# Altium schematic symbol library Microchip.SchLib: 39 symbols (part 1 of 2)
Pins are listed as number, name and electrical type; pins without a type are passive.

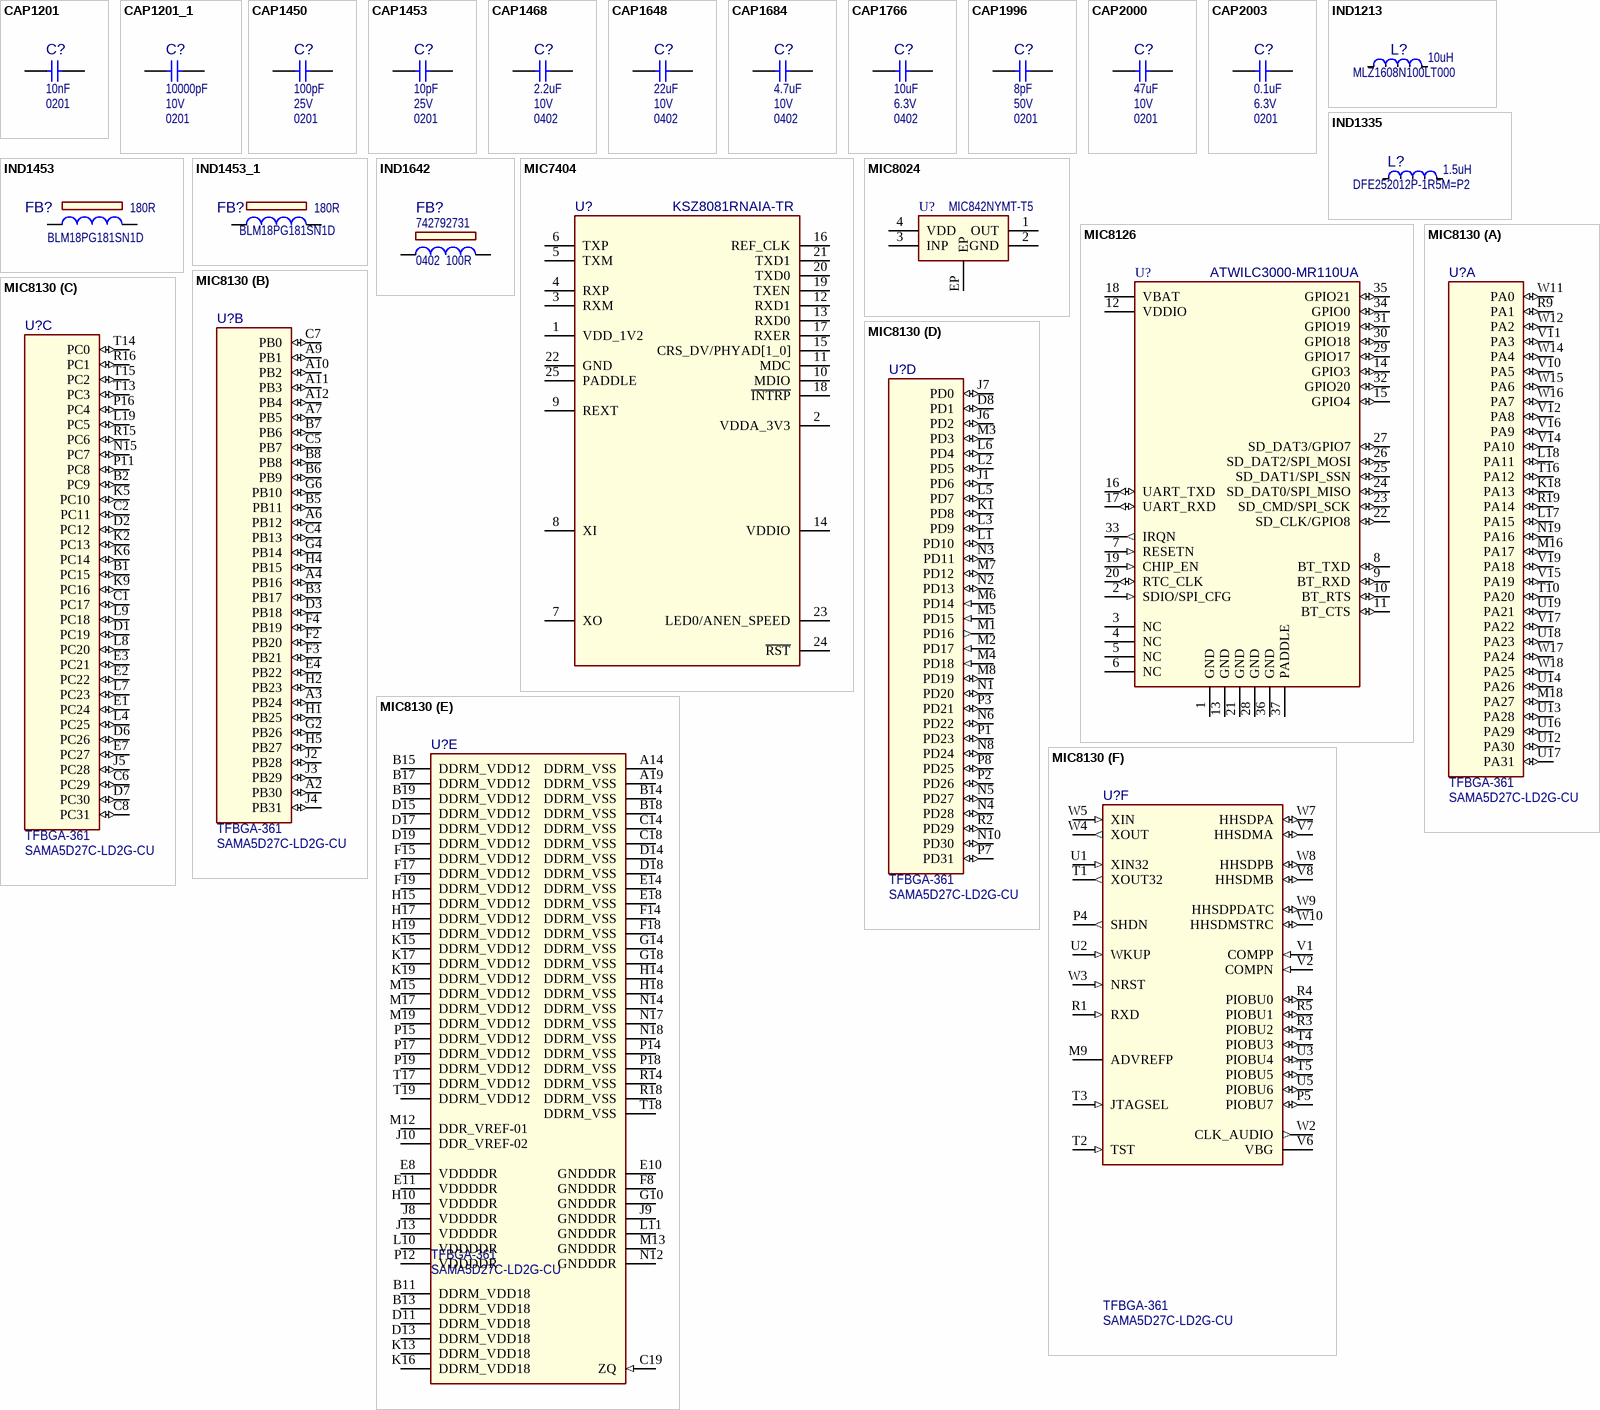
[diagram p0: symbols CAP1201 to MIC8130]

## CAP1201
designator C?, comment value 10nF  Package: 0201  (hidden comment: Capacitor NP)
Capacitor; Manufacturer 1: Murata; Manufacturer Part Number 1: GRM033R61A103KA01D; MCHP-ID: CAP1201; Voltage: 10V; Description_: CAP CER 10000pF 10V 10% X5R SMD 0201; Dev Tools Status: Production; Tolerance: 10%; Temperature Coeffcient: X5R; Type: Ceramic; Owner: Tad Ahlvers; Populated: YES; Revision: 1; Symbol: Capacitor NP; Status: MCL Design; ComponentLink1URL: https://chn-vm-apps.microchip.com/mchprepo/parts/Datasheets/c02e.pdf; ComponentLink1Description: SVN Datasheet; ComponentLink2URL: C:\ALTIUM_WORK\00001_MCHP-CDB\Datasheets\c02e.pdf; ComponentLink2Description: Local Datasheet; ComponentLink3URL: C:\ALTIUM_WORK\00001_MCHP-CDB\Library\LibraryRefs\Capacitor NP.SchLib; ComponentLink3Description: Open Symbol; ComponentLink4URL: C:\ALTIUM_WORK\00001_MCHP-CDB\Library\Footprints\CAP_C_0201.PcbLib; ComponentLink4Description: Open Footprint; ComponentLink5Description: Open Footprint 2; ComponentLink6Description: Open Footprint 3; ComponentLink7Description: Open Footprint 4; Operating Temperature: -55C to +85C; Category: Capacitor; Supplier 1: Digi-Key; Supplier Part Number 1: 490-3166-2-ND; Quantity Override: 1
footprint CAP_C_0201
pins: 1, 2

## CAP1201_1
designator C?, comment value 10000pF  Voltage: 10V  Package: 0201  (hidden comment: Capacitor NP)
Capacitor; Manufacturer 1: Murata; Manufacturer Part Number 1: GRM033R61A103KA01D; MCHP-ID: CAP1201; Description_: CAP CER 10000pF 10V 10% X5R SMD 0201; Dev Tools Status: Production; Tolerance: 10%; Temperature Coeffcient: X5R; Type: Ceramic; Owner: Tad Ahlvers; Populated: YES; Revision: 1; Symbol: Capacitor NP; Status: MCL Design; ComponentLink1URL: https://chn-vm-apps.microchip.com/mchprepo/parts/Datasheets/c02e.pdf; ComponentLink1Description: SVN Datasheet; ComponentLink2URL: C:\ALTIUM_WORK\00001_MCHP-CDB\Datasheets\c02e.pdf; ComponentLink2Description: Local Datasheet; ComponentLink3URL: C:\ALTIUM_WORK\00001_MCHP-CDB\Library\LibraryRefs\Capacitor NP.SchLib; ComponentLink3Description: Open Symbol; ComponentLink4URL: C:\ALTIUM_WORK\00001_MCHP-CDB\Library\Footprints\CAP_C_0201.PcbLib; ComponentLink4Description: Open Footprint; ComponentLink5Description: Open Footprint 2; ComponentLink6Description: Open Footprint 3; ComponentLink7Description: Open Footprint 4; Operating Temperature: -55C to +85C; Category: Capacitor; Supplier 1: Digi-Key; Supplier Part Number 1: 490-3166-2-ND; Quantity Override: 1
footprint CAP_C_0201
pins: 1, 2

## CAP1450
designator C?, comment value 100pF  Voltage: 25V  Package: 0201  (hidden comment: Capacitor NP)
Capacitor; Manufacturer 1: Murata Electronics North America; Manufacturer Part Number 1: GRM0335C1E101JA01D; MCHP-ID: CAP1450; Description_: CAP CER 100pF 25V 5% NP0 SMD 0201; Dev Tools Status: Design; Tolerance: 5%; Temperature Coeffcient: NP0; Type: Ceramic; Owner: Gabor Bihari; Populated: YES; Revision: B; Symbol: Capacitor NP; Status: MCL Design; ComponentLink1URL: https://chn-vm-apps.microchip.com/mchprepo/parts/Datasheets/c02e.pdf; ComponentLink1Description: SVN Datasheet; ComponentLink2URL: C:\ALTIUM_WORK\00001_MCHP-CDB\Datasheets\c02e.pdf; ComponentLink2Description: Local Datasheet; ComponentLink3URL: C:\ALTIUM_WORK\00001_MCHP-CDB\Library\LibraryRefs\Capacitor NP.SchLib; ComponentLink3Description: Open Symbol; ComponentLink4URL: C:\ALTIUM_WORK\00001_MCHP-CDB\Library\Footprints\CAP_C_0201.PcbLib; ComponentLink4Description: Open Footprint; ComponentLink5Description: Open Footprint 2; ComponentLink6Description: Open Footprint 3; ComponentLink7Description: Open Footprint 4; Operating Temperature: -55C to 125C; Category: Capacitor; Manufacturer 2: Murata Electronics North America; Manufacturer Part Number 2: GRM0335C1E101JA01D; Supplier 1: Digi-Key; Supplier Part Number 1: 490-3160-1-ND; Supplier 2: Digi-Key; Supplier Part Number 2: 490-3160-2-ND; Quantity Override: 1
footprint CAP_C_0201
pins: 1, 2

## CAP1453
designator C?, comment value 10pF  Voltage: 25V  Package: 0201  (hidden comment: Capacitor NP)
Capacitor; Manufacturer 1: TDK Corporation; Manufacturer Part Number 1: C0603C0G1E100D030BA; MCHP-ID: CAP1453; Description_: CAP CER 10pF 25V 0.5pF C0G SMD 0201; Dev Tools Status: Design; Tolerance: 0.5pF; Temperature Coeffcient: C0G; Type: Ceramic; Owner: Gabor Bihari; Populated: DNP; Revision: A; Symbol: Capacitor NP; Status: MCL Design; ComponentLink1URL: https://chn-vm-apps.microchip.com/mchprepo/parts/Datasheets/mlcc_commercial_general_en.pdf; ComponentLink1Description: SVN Datasheet; ComponentLink2URL: C:\ALTIUM_WORK\00001_MCHP-CDB\Datasheets\mlcc_commercial_general_en.pdf; ComponentLink2Description: Local Datasheet; ComponentLink3URL: C:\ALTIUM_WORK\00001_MCHP-CDB\Library\LibraryRefs\Capacitor NP.SchLib; ComponentLink3Description: Open Symbol; ComponentLink4URL: C:\ALTIUM_WORK\00001_MCHP-CDB\Library\Footprints\CAP_C_0201.PcbLib; ComponentLink4Description: Open Footprint; ComponentLink5Description: Open Footprint 2; ComponentLink6Description: Open Footprint 3; ComponentLink7Description: Open Footprint 4; Operating Temperature: -55C to +125C; Category: Capacitor; Supplier 1: Digi-Key; Supplier Part Number 1: 445-4651-2-ND; Quantity Override: 1
footprint CAP_C_0201
pins: 1, 2

## CAP1468
designator C?, comment value 2.2uF  Voltage: 10V  Package: 0402  (hidden comment: Capacitor NP)
Capacitor; Manufacturer 1: TDK Corporation; Manufacturer Part Number 1: C1005X7S1A225K050BC; MCHP-ID: CAP1468; Description_: CAP CER 2.2uF 10V 10% X7S SMD 0402; Dev Tools Status: Production; Tolerance: 10%; Temperature Coeffcient: X7S; Type: Ceramic; Owner: Sorin Stanoaia; Populated: YES; Revision: 1; Symbol: Capacitor NP; Status: MCL Design; ComponentLink1URL: https://chn-vm-apps.microchip.com/mchprepo/parts/Datasheets/c02e.pdf; ComponentLink1Description: SVN Datasheet; ComponentLink2URL: C:\ALTIUM_WORK\00001_MCHP-CDB\Datasheets\c02e.pdf; ComponentLink2Description: Local Datasheet; ComponentLink3URL: C:\ALTIUM_WORK\00001_MCHP-CDB\Library\LibraryRefs\Capacitor NP.SchLib; ComponentLink3Description: Open Symbol; ComponentLink4URL: C:\ALTIUM_WORK\00001_MCHP-CDB\Library\Footprints\CAP_C_0402.PcbLib; ComponentLink4Description: Open Footprint; ComponentLink5Description: Open Footprint 2; ComponentLink6Description: Open Footprint 3; ComponentLink7Description: Open Footprint 4; Operating Temperature: -55C to +125C; Category: Capacitor; Manufacturer 2: Murata Electronics North America; Manufacturer Part Number 2: GRM155C71A225KE11J; Supplier 1: Digi-Key; Supplier Part Number 1: 445-9097-1-ND; Supplier 2: Digi-Key; Supplier Part Number 2: GRM155C71A225KE11J-ND; Quantity Override: 1
footprint CAP_C_0402
pins: 1, 2

## CAP1648
designator C?, comment value 22uF  Voltage: 10V  Package: 0402  (hidden comment: Capacitor NP)
GRM158R61A226ME15J Multilayer Ceramic Capacitors MLCC - SMD/SMT 22 uF 10 VDC 20% 0402 X5R; Manufacturer 1: TDK Corporation; Manufacturer Part Number 1: C1608X5R1A226M080AC; MCHP-ID: CAP1648; Description_: CAP CER 22uF 10V 20% X5R SMD 0603; Dev Tools Status: Production; Owner: Razvan Cristescu; Populated: YES; Revision: 1; Symbol: Capacitor NP; Status: MCL Design; Tolerance: 20%; Temperature Coeffcient: X5R; ComponentLink1URL: https://chn-vm-apps.microchip.com/mchprepo/parts/Datasheets/1913358.pdf; ComponentLink1Description: SVN Datasheet; ComponentLink2URL: C:\ALTIUM_WORK\00001_MCHP-CDB\Datasheets\1913358.pdf; ComponentLink2Description: Local Datasheet; ComponentLink3URL: C:\ALTIUM_WORK\00001_MCHP-CDB\Library\LibraryRefs\Capacitor NP.SchLib; ComponentLink3Description: Open Symbol; ComponentLink4URL: C:\ALTIUM_WORK\00001_MCHP-CDB\Library\Footprints\CAP_C_0603.PcbLib; ComponentLink4Description: Open Footprint; ComponentLink5Description: Open Footprint 2; ComponentLink6Description: Open Footprint 3; ComponentLink7Description: Open Footprint 4; Operating Temperature: -55C to +85C; Type: Ceramic; Category: Capacitor; Supplier 1: Farnell; Supplier Part Number 1: 2525091; Quantity Override: 1; Manufacturer 2: Murata Electronics North America; Manufacturer Part Number 2: GRM188R61A226ME15D; Supplier 2: Digi-Key; Supplier Part Number 2: 490-10476-1-ND
footprint CAP_C_0402 (Chip Capacitor, 2-Leads, Body 1.0x0.5mm, IPC High Density)
pins: 1, 2

## CAP1684
designator C?, comment value 4.7uF  Voltage: 10V  Package: 0402  (hidden comment: Capacitor NP)
Capacitor; Manufacturer 1: TDK Corporation; Manufacturer Part Number 1: C1005X5R1A475K050BC; MCHP-ID: CAP1684; Description_: CAP CER 4.7uF 10V 10% X5R SMD 0402; Dev Tools Status: Production; Tolerance: 10%; Temperature Coeffcient: X5R; Type: Ceramic; Owner: Jesus Aviles; Populated: YES; Revision: 1; Symbol: Capacitor NP; Status: MCL Design; ComponentLink1Description: SVN Datasheet; ComponentLink2Description: Local Datasheet; ComponentLink3URL: C:\ALTIUM_WORK\00001_MCHP-CDB\Library\LibraryRefs\Capacitor NP.SchLib; ComponentLink3Description: Open Symbol; ComponentLink4URL: C:\ALTIUM_WORK\00001_MCHP-CDB\Library\Footprints\CAP_C_0402.PcbLib; ComponentLink4Description: Open Footprint; ComponentLink5Description: Open Footprint 2; ComponentLink6Description: Open Footprint 3; ComponentLink7Description: Open Footprint 4; Operating Temperature: -55C to 85C; Category: Capacitor; Supplier 1: Digi-Key; Supplier Part Number 1: 445-13820-1-ND; Quantity Override: 1
footprint CAP_C_0402
pins: 1, 2

## CAP1766
designator C?, comment value 10uF  Voltage: 6.3V  Package: 0402  (hidden comment: Capacitor NP)
Capacitor; Manufacturer 1: Yageo; Manufacturer Part Number 1: CC0402MRX5R5BB106; MCHP-ID: CAP1766; Description_: CAP CER 10uF 6.3V 20% X5R SMD 0402; Dev Tools Status: Design; Tolerance: 20%; Temperature Coeffcient: X5R; Type: Ceramic; Owner: Sam Charles; Populated: YES; Revision: B; Symbol: Capacitor NP; Status: MCL Design; ComponentLink1URL: https://chn-vm-apps.microchip.com/mchprepo/parts/Datasheets/UPY-GPHC_X5R_4V-to-50V_25.pdf; ComponentLink1Description: SVN Datasheet; ComponentLink2URL: C:\ALTIUM_WORK\00001_MCHP-CDB\Datasheets\UPY-GPHC_X5R_4V-to-50V_25.pdf; ComponentLink2Description: Local Datasheet; ComponentLink3URL: C:\ALTIUM_WORK\00001_MCHP-CDB\Library\LibraryRefs\Capacitor NP.SchLib; ComponentLink3Description: Open Symbol; ComponentLink4URL: C:\ALTIUM_WORK\00001_MCHP-CDB\Library\Footprints\CAP_C_0402.PcbLib; ComponentLink4Description: Open Footprint; ComponentLink5Description: Open Footprint 2; ComponentLink6Description: Open Footprint 3; ComponentLink7Description: Open Footprint 4; Operating Temperature: -55°C ~ 85°C; Category: Capacitor; Supplier 1: Digi-Key; Supplier Part Number 1: 311-1729-1-ND; Quantity Override: 1
footprint CAP_C_0402
pins: 1, 2

## CAP1996
designator C?, comment value 8pF  Voltage: 50V  Package: 0201  (hidden comment: Capacitor NP)
Capacitor; Manufacturer 1: TDK Corporation; Manufacturer Part Number 1: CGA1A2C0G1H080D030BA; MCHP-ID: CAP1996; Description_: CAP CER 8pF 50V +/- 0.1pF C0G 0201; Dev Tools Status: Design; Tolerance: 0.1pF; Temperature Coeffcient: C0G; Type: Ceramic; Owner: Dragos Danaila; Populated: YES; Revision: B; Symbol: Capacitor NP; Status: MCL Design; ComponentLink1URL: https://chn-vm-apps.microchip.com/mchprepo/parts/Datasheets/GRM0335C1H8R0BA01-01.pdf; ComponentLink1Description: SVN Datasheet; ComponentLink2URL: C:\ALTIUM_WORK\00001_MCHP-CDB\Datasheets\GRM0335C1H8R0BA01-01.pdf; ComponentLink2Description: Local Datasheet; ComponentLink3URL: C:\ALTIUM_WORK\00001_MCHP-CDB\Library\LibraryRefs\Capacitor NP.SchLib; ComponentLink3Description: Open Symbol; ComponentLink4URL: C:\ALTIUM_WORK\00001_MCHP-CDB\Library\Footprints\CAP_C_0201.PcbLib; ComponentLink4Description: Open Footprint; ComponentLink5Description: Open Footprint 2; ComponentLink6Description: Open Footprint 3; ComponentLink7Description: Open Footprint 4; Operating Temperature: -55C to +125C; Category: Capacitor; Supplier 1: Digi-Key; Supplier Part Number 1: 445-12057-1-ND; Quantity Override: 1; Manufacturer 2: Murata Electronics; Manufacturer Part Number 2: GRM0335C1H8R0BA01D; Supplier 2: Mouser; Supplier Part Number 2: 81-GRM0335C1H8R0BA1D
footprint CAP_C_0201
pins: 1, 2

## CAP2000
designator C?, comment value 47uF  Voltage: 10V  Package: 0201  (hidden comment: Capacitor NP)
Capacitor; Manufacturer 1: Murata Electronics North America; Manufacturer Part Number 1: GRM21BR61A476ME15L; MCHP-ID: CAP2000; Description_: CAP CER 47uF 10V 20% X5R 0805; Dev Tools Status: Design; Tolerance: 20%; Temperature Coeffcient: X5R; ESR: 0.3R; Type: Ceramic; Owner: Dragos Danaila; Populated: YES; Revision: A; Symbol: Capacitor NP; Status: MCL Design; ComponentLink1URL: https://chn-vm-apps.microchip.com/mchprepo/parts/Datasheets/GRM21BR61A476ME15-01.pdf; ComponentLink1Description: SVN Datasheet; ComponentLink2URL: C:\ALTIUM_WORK\00001_MCHP-CDB\Datasheets\GRM21BR61A476ME15-01.pdf; ComponentLink2Description: Local Datasheet; ComponentLink3URL: C:\ALTIUM_WORK\00001_MCHP-CDB\Library\LibraryRefs\Capacitor NP.SchLib; ComponentLink3Description: Open Symbol; ComponentLink4URL: C:\ALTIUM_WORK\00001_MCHP-CDB\Library\Footprints\RES_C_0805.PcbLib; ComponentLink4Description: Open Footprint; ComponentLink5Description: Open Footprint 2; ComponentLink6Description: Open Footprint 3; ComponentLink7Description: Open Footprint 4; Operating Temperature: -55C to +85C; Category: Capacitor; Supplier 1: Digi-Key; Supplier Part Number 1: 490-9961-1-ND; Quantity Override: 1; Manufacturer 2: Taiyo Yuden; Manufacturer 3: Murata; Manufacturer 4: TDK; Manufacturer Part Number 2: LMK212BBJ476MG-T; Manufacturer Part Number 3: GRM21BR61A476ME15K; Manufacturer Part Number 4: C2012X5R1A476M125AC; Supplier 2: Mouser; Supplier 3: Mouser; Supplier 4: Mouser; Supplier Part Number 2: 963-LMK212BBJ476MG-T; Supplier Part Number 3: 81-GRM21BR61A476ME5K; Supplier Part Number 4: 810-C2012X5R1A476M
footprint CAPC6333_33N_KEM
pins: 1, 2

## CAP2003
designator C?, comment value 0.1uF  Voltage: 6.3V  Package: 0201  (hidden comment: Capacitor NP)
Capacitor; Manufacturer 1: KEMET; Manufacturer Part Number 1: C0201C104K9PACTU; MCHP-ID: CAP2003; Description_: CAP CER 0.1uF 6.3V 10% X5R 0201; Dev Tools Status: Design; Tolerance: 10%; Temperature Coeffcient: X5R; Owner: Dragos Danaila; Populated: YES; ESR: 0.005R; Type: Ceramic; Revision: A; Symbol: Capacitor NP; Status: MCL Design; ComponentLink1URL: https://chn-vm-apps.microchip.com/mchprepo/parts/Datasheets/KEM_C1006_X5R_SMD.pdf; ComponentLink1Description: SVN Datasheet; ComponentLink2URL: C:\ALTIUM_WORK\00001_MCHP-CDB\Datasheets\KEM_C1006_X5R_SMD.pdf; ComponentLink2Description: Local Datasheet; ComponentLink3URL: C:\ALTIUM_WORK\00001_MCHP-CDB\Library\LibraryRefs\Capacitor NP.SchLib; ComponentLink3Description: Open Symbol; ComponentLink4URL: C:\ALTIUM_WORK\00001_MCHP-CDB\Library\Footprints\RES_C_0201.PcbLib; ComponentLink4Description: Open Footprint; ComponentLink5Description: Open Footprint 2; ComponentLink6Description: Open Footprint 3; ComponentLink7Description: Open Footprint 4; Operating Temperature: -55C to +85C; Category: Capacitor; Supplier 1: Digi-Key; Supplier Part Number 1: 399-7743-1-ND; Quantity Override: 1; Manufacturer 2: Murata Electronics North America; Manufacturer Part Number 2: GRM033R60J104KE19D; Manufacturer 3: Yageo; Manufacturer Part Number 3: CC0201KRX5R5BB104; Supplier 2: Digi-Key; Supplier Part Number 2: 490-3167-1-ND; Supplier 3: Digi-Key; Supplier Part Number 3: 311-1408-1-ND
footprint CAP_C_0201
pins: 1, 2

## IND1213
designator L?, comment value 10uH  Manufacturer Part Number 1: MLZ1608N100LT000  (hidden comment: Inductor)
Manufacturer 1: TDK Corporation; MCHP-ID: IND1213; Description_: INDUCTOR 10uH 600mA 20% SMD 0603; Dev Tools Status: Design; Owner: Jamus Griego; Populated: YES; DCR: 0.6R; RMS Current: 300mA; Saturation Current: 60mA; Test Frequency: 2MHz; Revision: A; Symbol: Inductor; Status: MCL Design; ComponentLink1Description: SVN Datasheet; ComponentLink2Description: Local Datasheet; ComponentLink3URL: C:\ALTIUM_WORK\00001_MCHP-CDB\Library\LibraryRefs\Inductor.SchLib; ComponentLink3Description: Open Symbol; ComponentLink4URL: C:\ALTIUM_WORK\00001_MCHP-CDB\Library\Footprints\IND_C_0603.PcbLib; ComponentLink4Description: Open Footprint; ComponentLink5Description: Open Footprint 2; ComponentLink6Description: Open Footprint 3; ComponentLink7Description: Open Footprint 4; Type: Inductor; Category: Inductor; Supplier 1: Digi-Key; Supplier Part Number 1: 445-6755-1-ND; Quantity Override: 1; ComponentLink1URL: https://chn-vm-apps.microchip.com/mchprepo/parts/Datasheets/inductor_commercial_decoupling_mlz1608_en.pdf; ComponentLink2URL: C:\ALTIUM_WORK\00001_MCHP-CDB\Datasheets\inductor_commercial_decoupling_mlz1608_en.pdf; Operating Temperature: -55C to +125C; Package: 0603
footprint IND_0603
pins: 1 S, 2 F
2 alternate drawings of the same symbol

## IND1335
designator L?, comment value 1.5uH  Manufacturer Part Number 1: DFE252012P-1R5M=P2  (hidden comment: Inductor)
Manufacturer 1: Murata Electronics North America; MCHP-ID: IND1335; Description_: INDUCTOR 1.5uH 3.5A 20% SMD 1008; Dev Tools Status: Design; Owner: Razvan Cristescu; DCR: 0.06R; RMS Current: 3.5A; Test Frequency: 1MHz; Populated: YES; Revision: A; Symbol: Inductor; Status: MCL Design; ComponentLink1URL: https://chn-vm-apps.microchip.com/mchprepo/parts/Datasheets/m_dfe252012p.pdf; ComponentLink1Description: SVN Datasheet; ComponentLink2URL: C:\ALTIUM_WORK\00001_MCHP-CDB\Datasheets\m_dfe252012p.pdf; ComponentLink2Description: Local Datasheet; ComponentLink3URL: C:\ALTIUM_WORK\00001_MCHP-CDB\Library\LibraryRefs\Inductor.SchLib; ComponentLink3Description: Open Symbol; ComponentLink4URL: C:\ALTIUM_WORK\00001_MCHP-CDB\Library\Footprints\IND_C_1008.PcbLib; ComponentLink4Description: Open Footprint; ComponentLink5Description: Open Footprint 2; ComponentLink6Description: Open Footprint 3; ComponentLink7Description: Open Footprint 4; Package: 1008; Type: Inductor; Category: Inductor; Supplier 1: Digi-Key; Supplier Part Number 1: 490-10648-6-ND; Quantity Override: 1
footprint IND_1008
pins: 1 S, 2 F
2 alternate drawings of the same symbol

## IND1453
designator FB?, comment value 180R  Manufacturer Part Number 1: BLM18PG181SN1D  (hidden comment: Ferrite Bead)
FERRITE 180R 1.5A SMD 0603; Manufacturer 1: Murata Electronics North America; MCHP-ID: IND1453; Dev Tools Status: Production; Owner: Dragos Danaila; DCR: 0.09R; Test Frequency: 100MHz; Populated: YES; Revision: 1; Symbol: Ferrite Bead; Description_: FERRITE 180R 1.5A SMD 0603; Status: MCL Design; ComponentLink1URL: https://chn-vm-apps.microchip.com/mchprepo/parts/Datasheets/ENFA0003.pdf; ComponentLink1Description: SVN Datasheet; ComponentLink2URL: C:\ALTIUM_WORK\00001_MCHP-CDB\Datasheets\ENFA0003.pdf; ComponentLink2Description: Local Datasheet; ComponentLink3URL: C:\ALTIUM_WORK\00001_MCHP-CDB\Library\LibraryRefs\Ferrite Bead.SchLib; ComponentLink3Description: Open Symbol; ComponentLink4URL: C:\ALTIUM_WORK\00001_MCHP-CDB\Library\Footprints\IND_C_0603.PcbLib; ComponentLink4Description: Open Footprint; ComponentLink5Description: Open Footprint 2; ComponentLink6Description: Open Footprint 3; ComponentLink7Description: Open Footprint 4; Operating Temperature: -55C to +125C; Package: 0603; Type: Ferrite Bead; Category: Inductor; Saturation Current: 1.5A; Supplier 1: Digi-Key; Supplier Part Number 1: 490-5263-1-ND; Quantity Override: 1
footprint IND_0603
pins: 1, 2
2 alternate drawings of the same symbol

## IND1453_1
designator FB?, comment value 180R  Manufacturer Part Number 1: BLM18PG181SN1D  (hidden comment: Ferrite Bead)
Manufacturer 1: Murata Electronics North America; MCHP-ID: IND1453; Description_: FERRITE 180R 1.5A SMD 0603; Dev Tools Status: Design; Owner: Dragos Danaila; DCR: 0.09R; Saturation Current: 1.5A; Test Frequency: 100MHz; Populated: YES; Revision: A; Symbol: Ferrite Bead; Status: MCL Design; ComponentLink1URL: https://chn-vm-apps.microchip.com/mchprepo/parts/Datasheets/ENFA0003.pdf; ComponentLink1Description: SVN Datasheet; ComponentLink2URL: C:\ALTIUM_WORK\00001_MCHP-CDB\Datasheets\ENFA0003.pdf; ComponentLink2Description: Local Datasheet; ComponentLink3URL: C:\ALTIUM_WORK\00001_MCHP-CDB\Library\LibraryRefs\Ferrite Bead.SchLib; ComponentLink3Description: Open Symbol; ComponentLink4URL: C:\ALTIUM_WORK\00001_MCHP-CDB\Library\Footprints\IND_C_0603.PcbLib; ComponentLink4Description: Open Footprint; ComponentLink5Description: Open Footprint 2; ComponentLink6Description: Open Footprint 3; ComponentLink7Description: Open Footprint 4; Operating Temperature: -55C to +125C; Package: 0603; Type: Ferrite Bead; Category: Inductor; Supplier 1: Digi-Key; Supplier Part Number 1: 490-5263-1-ND; Quantity Override: 1
footprint IND_0603
pins: 1, 2
2 alternate drawings of the same symbol

## IND1642
designator FB?, comment value 100R  Package: 0402  Manufacturer Part Number 1: 742792731  (hidden comment: Ferrite Bead)
Manufacturer 1: Wurth Electronics; MCHP-ID: IND1642; Description_: FERRITE 100R@100MHz 1.2A SMD 0402; Dev Tools Status: Design; Owner: Dragos Danaila; DCR: 0.09R; RMS Current: 1.2A; Test Frequency: 100MHz; Populated: YES; Revision: A; Symbol: Ferrite Bead; Status: MCL Design; ComponentLink1URL: https://chn-vm-apps.microchip.com/mchprepo/parts/Datasheets/742792731.pdf; ComponentLink1Description: SVN Datasheet; ComponentLink2URL: C:\ALTIUM_WORK\00001_MCHP-CDB\Datasheets\742792731.pdf; ComponentLink2Description: Local Datasheet; ComponentLink3URL: C:\ALTIUM_WORK\00001_MCHP-CDB\Library\LibraryRefs\Ferrite Bead.SchLib; ComponentLink3Description: Open Symbol; ComponentLink4URL: C:\ALTIUM_WORK\00001_MCHP-CDB\Library\Footprints\IND_C_0402.PcbLib; ComponentLink4Description: Open Footprint; ComponentLink5Description: Open Footprint 2; ComponentLink6Description: Open Footprint 3; ComponentLink7Description: Open Footprint 4; Operating Temperature: -55C to +125C; Type: Ferrite Bead; Category: Inductor; Supplier 1: Digi-Key; Supplier Part Number 1: 732-2362-1-ND; Quantity Override: 1
footprint IND_0402
pins: 1, 2
2 alternate drawings of the same symbol

## MIC7404
designator U?, comment value KSZ8081RNAIA-TR  (hidden comment: ETHERNET QFN-24)
Manufacturer 1: Microchip Technology; MCHP-ID: MIC7404; Description_: MCHP INTERFACE ETHERNET KSZ8081RNAIA-TR QFN-24; Symbol: KSZ8081RNAIA QFN-24; Dev Tools Status: Design; Owner: Ciprian Abramov; Populated: YES; Type: Ethernet; Status: MCL Design; Revision: A; Category: MCHP-Interface; ComponentLink1Description: SVN Datasheet; ComponentLink2Description: Local Datasheet; ComponentLink3URL: C:\ALTIUM_WORK\00001_MCHP-CDB\Library\LibraryRefs\KSZ8081RNAIA QFN-24.SchLib; ComponentLink3Description: Open Symbol; ComponentLink4URL: C:\ALTIUM_WORK\00001_MCHP-CDB\Library\Footprints\QFN-24_4X4.PcbLib; ComponentLink4Description: Open Footprint; ComponentLink5Description: Open Footprint 2; ComponentLink6Description: Open Footprint 3; ComponentLink7Description: Open Footprint 4; Manufacturer Part Number 1: KSZ8081RNAIA-TR; Supplier 1: Digi-Key; Supplier Part Number 1: 576-4174-1-ND; Quantity Override: 1
footprint QFN-24_MCH
pins: 1 VDD_1V2, 2 VDDA_3V3, 3 RXM, 4 RXP, 5 TXM, 6 TXP, 7 XO, 8 XI, 9 REXT, 10 MDIO, 11 MDC, 12 RXD1, 13 RXD0, 14 VDDIO, 15 CRS_DV/PHYAD[1_0], 16 REF_CLK, 17 RXER, 18 ~{INTRP}, 19 TXEN, 20 TXD0, 21 TXD1, 22 GND, 23 LED0/ANEN_SPEED, 24 ~{RST}, 25 PADDLE

## MIC8024
designator U?, comment Manufacturer Part Number 1: MIC842NYMT-T5  (hidden comment: MIC842 TDFN-4)
Manufacturer 1: Microchip Technology; MCHP-ID: MIC8024; Description_: MCHP ANALOG COMPARATOR 1-CH MIC842NYMT-T5 4-TDFN; MAPS Description: 1.5uA Undervoltage Comparator w/ 1.25% 1.24V Reference, 20mV Hysteresis, Active-; Dev Tools Status: Design; Owner: Dragos Danaila; MPC: 27809THGAE06; LeadContent: Pb-FREE; PackingMedia: T/R; Stage: REL; LeadCount: 4; PackageWidth: 1.2x1.6x0.6mm; ForceMinOrderQtyMult: True; MinOrderQty: 500; TempRange: -40C to +85C; tblDeviceFamilyID: 10172; VDDmax: 0; Channels: 1; TypicalPropDelay: 12000; RailIn: False; Populated: YES; Value: MIC842 TDFN-4; Symbol: MIC842 TDFN-4; Type: Comparator; Status: MCL Design; Revision: B; Category: MCHP-Analog; ComponentLink1URL: http://www.microchip.com/wwwproducts/MIC842; ComponentLink1Description: SVN Datasheet; ComponentLink2URL: C:\ALTIUM_WORK\00001_MCHP-CDB\Datasheets\20005758A.pdf; ComponentLink2Description: Local Datasheet; ComponentLink3URL: C:\ALTIUM_WORK\00001_MCHP-CDB\Library\LibraryRefs\MIC842 TDFN-4.SchLib; ComponentLink3Description: Open Symbol; ComponentLink4URL: C:\ALTIUM_WORK\00001_MCHP-CDB\Library\Footprints\TDFN-4_1.6x1.2.PcbLib; ComponentLink4Description: Open Footprint; ComponentLink5Description: Open Footprint 2; ComponentLink6Description: Open Footprint 3; ComponentLink7Description: Open Footprint 4; Supplier 1: Digi-Key; Supplier Part Number 1: 576-4506-1-ND; IntroductionDate: 2014-01-09; PackageType: UDFN; VDDmin: 0; IqMax: 0; VosMax: 0; Quantity Override: 1
footprint TDFN4_1P2X1P6_MCH
pins: 1 OUT, 2 GND, 3 INP, 4 VDD, EP

## MIC8126
designator U?, comment value ATWILC3000-MR110UA  (hidden comment: MODULE ATWILC3000-MR110CA)
Manufacturer 1: Microchip Technology; MCHP-ID: MIC8126; Description_: MCHP RF WI-FI 802.11b/g/n ATWILC3000-MR110UA; MAPS Description: SmartConnect WILC3000-MR110UA Module; Dev Tools Status: Design; Owner: Ilie Galan; tblDeviceFamilyID: 11256; FrequencyRange: 2.412-2.472 MHz; MaxSpeedMHz: 0; PowerRX: 84mA (802.11n MCS7); PowerTX: 253mA (802.11n MCS7); Sleep: 1.25uA; Populated: YES; Symbol: MODULE ATWILC3000-MR110CA; Type: Wi-Fi; Status: MCL Design; Revision: A; Category: MCHP-Wireless; ComponentLink1URL: http://www.microchip.com/wwwproducts/ATWILC3000; ComponentLink1Description: SVN Datasheet; ComponentLink2URL: C:\ALTIUM_WORK\00001_MCHP-CDB\Datasheets\70005327A.pdf; ComponentLink2Description: Local Datasheet; ComponentLink3URL: C:\ALTIUM_WORK\00001_MCHP-CDB\Library\LibraryRefs\MODULE ATWILC3000-MR110CA.SchLib; ComponentLink3Description: Open Symbol; ComponentLink4URL: C:\ALTIUM_WORK\00001_MCHP-CDB\Library\Footprints\MODULE ATWILC3000-MR110CA.PcbLib; ComponentLink4Description: Open Footprint; ComponentLink5Description: Open Footprint 2; ComponentLink6Description: Open Footprint 3; ComponentLink7Description: Open Footprint 4; Manufacturer Part Number 1: ATWILC3000-MR110UA; Supplier 1: Digi-Key; Supplier Part Number 1: ATWILC3000-MR110UA-ND; Supplier 2: Microchip; Supplier Part Number 2: Microchip Technology ATWILC3000-MR110UA; RfDataRate: 0; RfPower: 0; VDDmax: 0; VDDmin: 0; Quantity Override: 1
footprint MODULE ATWILC3000-MR110CA
pins: 1 GND (power), 2 SDIO/SPI_CFG (in), 3 NC, 4 NC, 5 NC, 6 NC, 7 RESETN (in), 8 BT_TXD (io), 9 BT_RXD (io), 10 BT_RTS (io), 11 BT_CTS (io), 12 VDDIO (power), 13 GND (power), 14 GPIO3 (io), 15 GPIO4 (io), 16 UART_TXD (io), 17 UART_RXD (io), 18 VBAT (power), 19 CHIP_EN (in), 20 RTC_CLK (io), 21 GND (power), 22 SD_CLK/GPIO8 (io), 23 SD_CMD/SPI_SCK (io), 24 SD_DAT0/SPI_MISO (io), 25 SD_DAT1/SPI_SSN (io), 26 SD_DAT2/SPI_MOSI (io), 27 SD_DAT3/GPIO7 (io), 28 GND (power), 29 GPIO17 (io), 30 GPIO18 (io), 31 GPIO19 (io), 32 GPIO20 (io), 33 IRQN (out), 34 GPIO0 (io), 35 GPIO21 (io), 36 GND (power), 37 PADDLE (power)

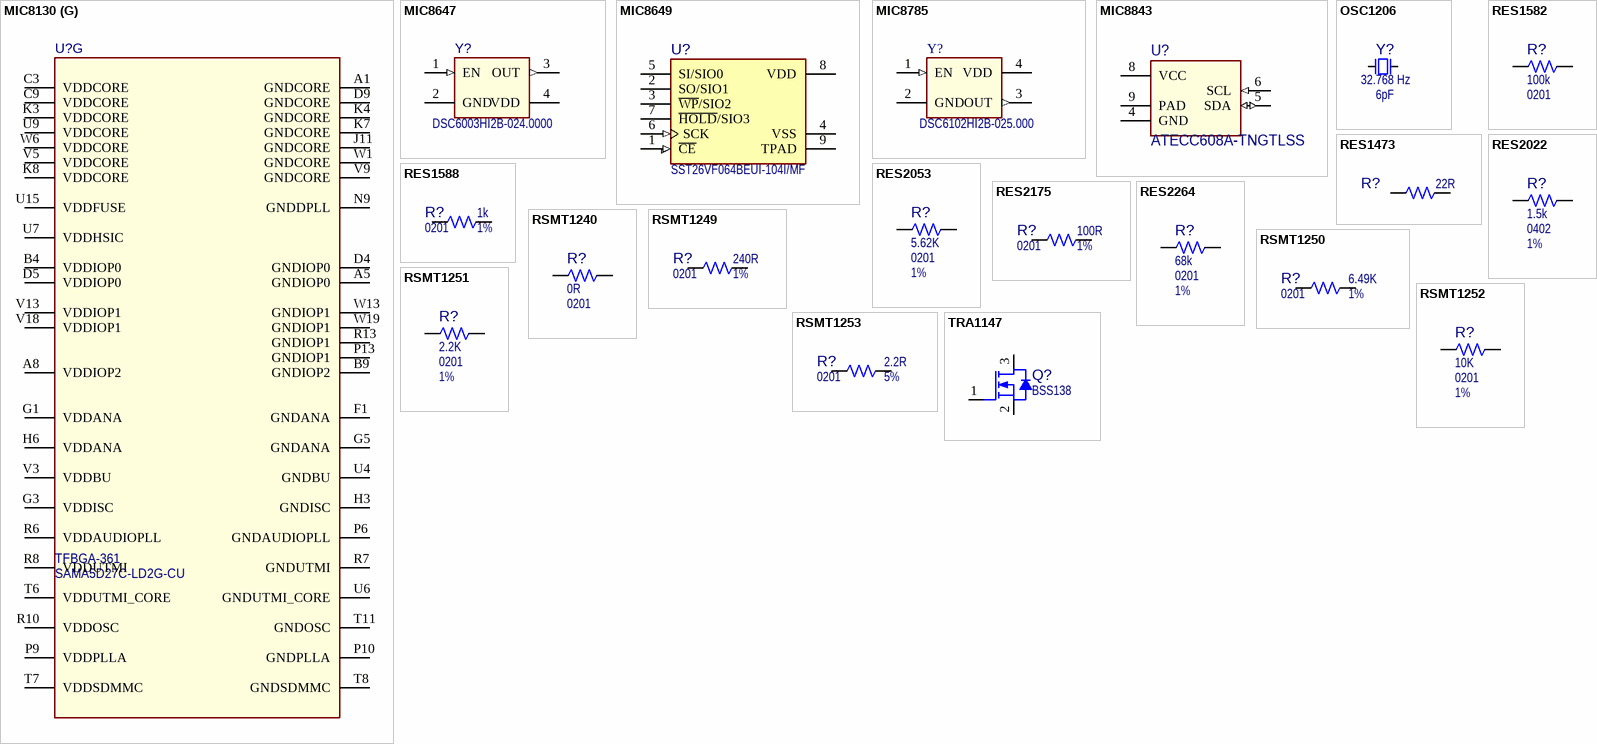
[diagram p1: symbols MIC8130 to TRA1147]

## MIC8130
designator U?, comment SAMA5D27C-LD2G-CU  PackageType: TFBGA-361
SAMA5D2 MPU with 2Gb LPDDR2 x32 TFBGA-361; Manufacturer 1: Microchip Technology / Atmel; Manufacturer Part Number 1: ATSAMA5D27C-LD2G-CU; MCHP-ID: MIC8130; Value: SAMA5D2-LPDDR2-SIP-BGA-361; Description_: MCHP MCU SiP 32-BIT 500MHz 160kB 128kB 2Gbit ATSAMA5D27C-LD2G-CU 361-TFBGA; MAPS Description: CORTEX-A5 MPU,BGA,IND TEMP,2Gb LPDDR2, MRLC; Dev Tools Status: Design; Owner: Dragos Danaila; MPC: 3410H7DYBR01; LeadContent: Pb-FREE; TempRange: -40C to +85C; Stage: REL; PackageWidth: 16x16x1.2mm; PackingMedia: TRAY; ForceMinOrderQtyMult: True; MinOrderQty: 84; LeadCount: 361; Program Memory KBytes: 0; Ram: 131072; IOPins: 128; MaxSpeed: 500; OscillatorMHz: 32kHz, 12MHz; ADC Channels: 12; USART: 10; SPI: 7; CAN: 2; USBChannels: 3; Input Capture: 6; mtrlcntrlpwmchannels: 8; DigitalTimerQty_16bit: 4; Populated: YES; Symbol: SAMA5D2-LPDDR2-SIP-BGA-361; Type: 32-Bit MPU; Status: MCL Design; Revision: D; Category: MCHP-Microcontroller; ComponentLink1URL: http://www.microchip.com/wwwproducts/ATSAMA5D27C-LD2G; ComponentLink1Description: SVN Datasheet; ComponentLink2URL: C:\ALTIUM_WORK\00001_MCHP-CDB\Datasheets\SAMA5D2-Plus-DDR2-LPDDR2-System-in-Package-(SIP)-60001484b.pdf; ComponentLink2Description: Local Datasheet; ComponentLink3URL: C:\ALTIUM_WORK\00001_MCHP-CDB\Library\LibraryRefs\SAMA5D2-LPDDR2-SIP-BGA-361.SchLib; ComponentLink3Description: Open Symbol; ComponentLink4URL: C:\ALTIUM_WORK\00001_MCHP-CDB\Library\Footprints\TFBGA-361-16X16.PcbLib; ComponentLink4Description: Open Footprint; ComponentLink5Description: Open Footprint 2; ComponentLink6Description: Open Footprint 3; ComponentLink7Description: Open Footprint 4; Supplier 1: Digi-Key; Supplier Part Number 1: ATSAMA5D27C-LD2G-CU-ND; IntroductionDate: 2019-02-04; Family: SAMA5; Program Memory KWords: 0; ADCBit: 12; I2C: 7; PWM Channels: 6; QEI Channels: 2; DigitalTimerQty_32bit: 6; Quantity Override: 1
footprint BGA361_16x16_MCH
part A pins: K18 PA13 (io), L17 PA15 (io), L18 PA11 (io), M16 PA17 (io), M18 PA27 (io), N19 PA16 (io), R9 PA1 (io), R19 PA14 (io), T10 PA20 (io), T16 PA12 (io), U12 PA30 (io), U13 PA28 (io), U14 PA26 (io), U16 PA29 (io), U17 PA31 (io), U18 PA23 (io), U19 PA21 (io), V10 PA5 (io), V11 PA3 (io), V12 PA8 (io), V14 PA10 (io), V15 PA19 (io), V16 PA9 (io), V17 PA22 (io), V19 PA18 (io), W11 PA0 (io), W12 PA2 (io), W14 PA4 (io), W15 PA6 (io), W16 PA7 (io), W17 PA24 (io), W18 PA25 (io)
part B pins: A2 PB30 (io), A3 PB24 (io), A4 PB16 (io), A6 PB12 (io), A7 PB5 (io), A9 PB1 (io), A10 PB2 (io), A11 PB3 (io), A12 PB4 (io), B3 PB17 (io), B5 PB11 (io), B6 PB9 (io), B7 PB6 (io), B8 PB8 (io), C4 PB13 (io), C5 PB7 (io), C7 PB0 (io), D3 PB18 (io), E4 PB22 (io), F2 PB20 (io), F3 PB21 (io), F4 PB19 (io), G2 PB26 (io), G4 PB14 (io), G6 PB10 (io), H1 PB25 (io), H2 PB23 (io), H4 PB15 (io), H5 PB27 (io), J2 PB28 (io), J3 PB29 (io), J4 PB31 (io)
part C pins: B1 PC15 (io), B2 PC9 (io), C1 PC17 (io), C2 PC11 (io), C6 PC29 (io), C8 PC31 (io), D1 PC19 (io), D2 PC12 (io), D6 PC26 (io), D7 PC30 (io), E1 PC24 (io), E2 PC22 (io), E3 PC21 (io), E7 PC27 (io), J5 PC28 (io), K2 PC13 (io), K5 PC10 (io), K6 PC14 (io), K9 PC16 (io), L4 PC25 (io), L7 PC23 (io), L8 PC20 (io), L9 PC18 (io), L19 PC5 (io), N15 PC7 (io), P11 PC8 (io), P16 PC4 (io), R15 PC6 (io), R16 PC1 (io), T13 PC3 (io), T14 PC0 (io), T15 PC2 (io)
part D pins: D8 PD1 (io), J1 PD6 (io), J6 PD2 (io), J7 PD0 (io), K1 PD8 (io), L1 PD10 (io), L2 PD5 (io), L3 PD9 (io), L5 PD7 (io), L6 PD4 (io), M1 PD16 (out), M2 PD17 (in), M3 PD3 (io), M4 PD18 (in), M5 PD15 (in), M6 PD14 (in), M7 PD12 (io), M8 PD19 (io), N1 PD20 (io), N2 PD13 (io), N3 PD11 (io), N4 PD28 (io), N5 PD27 (io), N6 PD22 (io), N8 PD24 (io), N10 PD30 (io), P1 PD23 (io), P2 PD26 (io), P3 PD21 (io), P7 PD31 (io), P8 PD25 (io), R2 PD29 (io)
part E pins: A14 DDRM_VSS (power), A19 DDRM_VSS (power), B11 DDRM_VDD18 (power), B13 DDRM_VDD18 (power), B14 DDRM_VSS (power), B15 DDRM_VDD12 (power), B17 DDRM_VDD12 (power), B18 DDRM_VSS (power), B19 DDRM_VDD12 (power), C14 DDRM_VSS (power), C18 DDRM_VSS (power), C19 ZQ (in), D11 DDRM_VDD18 (power), D13 DDRM_VDD18 (power), D14 DDRM_VSS (power), D15 DDRM_VDD12 (power), D17 DDRM_VDD12 (power), D18 DDRM_VSS (power), D19 DDRM_VDD12 (power), E8 VDDDDR (power), E10 GNDDDR (power), E11 VDDDDR (power), E14 DDRM_VSS (power), E18 DDRM_VSS (power), F8 GNDDDR (power), F14 DDRM_VSS (power), F15 DDRM_VDD12 (power), F17 DDRM_VDD12 (power), F18 DDRM_VSS (power), F19 DDRM_VDD12 (power), G10 GNDDDR (power), G14 DDRM_VSS (power), G18 DDRM_VSS (power), H10 VDDDDR (power), H14 DDRM_VSS (power), H15 DDRM_VDD12 (power), H17 DDRM_VDD12 (power), H18 DDRM_VSS (power), H19 DDRM_VDD12 (power), J8 VDDDDR (power), J9 GNDDDR (power), J10 DDR_VREF-02 (power), J13 VDDDDR (power), K13 DDRM_VDD18 (power), K15 DDRM_VDD12 (power), K16 DDRM_VDD18 (power), K17 DDRM_VDD12 (power), K19 DDRM_VDD12 (power), L10 VDDDDR (power), L11 GNDDDR (power), M12 DDR_VREF-01 (power), M13 GNDDDR (power), M15 DDRM_VDD12 (power), M17 DDRM_VDD12 (power), M19 DDRM_VDD12 (power), N12 GNDDDR (power), N14 DDRM_VSS (power), N17 DDRM_VSS (power), N18 DDRM_VSS (power), P12 VDDDDR (power), P14 DDRM_VSS (power), P15 DDRM_VDD12 (power), P17 DDRM_VDD12 (power), P18 DDRM_VSS (power), P19 DDRM_VDD12 (power), R14 DDRM_VSS (power), R18 DDRM_VSS (power), T17 DDRM_VDD12 (power), T18 DDRM_VSS (power), T19 DDRM_VDD12 (power)
part F pins: M9 ADVREFP (power), P4 SHDN (out), P5 PIOBU7 (io), R1 RXD (in), R3 PIOBU2 (io), R4 PIOBU0 (io), R5 PIOBU1 (io), T1 XOUT32 (out), T2 TST (in), T3 JTAGSEL (in), T4 PIOBU3 (io), T5 PIOBU5 (io), U1 XIN32 (in), U2 WKUP (in), U3 PIOBU4 (io), U5 PIOBU6 (io), V1 COMPP (in), V2 COMPN (in), V6 VBG (power), V7 HHSDMA (io), V8 HHSDMB (io), W2 CLK_AUDIO (out), W3 NRST (in), W4 XOUT (out), W5 XIN (in), W7 HHSDPA (io), W8 HHSDPB (io), W9 HHSDPDATC (io), W10 HHSDMSTRC (io)
part G pins: A1 GNDCORE (power), A5 GNDIOP0 (power), A8 VDDIOP2 (power), B4 VDDIOP0 (power), B9 GNDIOP2 (power), C3 VDDCORE (power), C9 VDDCORE (power), D4 GNDIOP0 (power), D5 VDDIOP0 (power), D9 GNDCORE (power), F1 GNDANA (power), G1 VDDANA (power), G3 VDDISC (power), G5 GNDANA (power), H3 GNDISC (power), H6 VDDANA (power), J11 GNDCORE (power), K3 VDDCORE (power), K4 GNDCORE (power), K7 GNDCORE (power), K8 VDDCORE (power), N9 GNDDPLL (power), P6 GNDAUDIOPLL (power), P9 VDDPLLA (power), P10 GNDPLLA (power), P13 GNDIOP1 (power), R6 VDDAUDIOPLL (power), R7 GNDUTMI (power), R8 VDDUTMI (power), R10 VDDOSC (power), R13 GNDIOP1 (power), T6 VDDUTMI_CORE (power), T7 VDDSDMMC (power), T8 GNDSDMMC (power), T11 GNDOSC (power), U4 GNDBU (power), U6 GNDUTMI_CORE (power), U7 VDDHSIC (power), U9 VDDCORE (power), U15 VDDFUSE (power), V3 VDDBU (power), V5 VDDCORE (power), V9 GNDCORE (power), V13 VDDIOP1 (power), V18 VDDIOP1 (power), W1 GNDCORE (power), W6 VDDCORE (power), W13 GNDIOP1 (power), W19 GNDIOP1 (power)

## MIC8647
designator Y?, comment Manufacturer Part Number 1: DSC6003HI2B-024.0000  (hidden comment: OSCILLATOR 4 Pins)
Manufacturer 1: Microchip Technology; MCHP-ID: MIC8647; Description_: OSCILLATOR MEMS 24MHz DSC6003HI2B-024.0000 SMD VFLGA-4; Dev Tools Status: Design; Value: DSC6003HI2B-024.0000; Owner: Dragos Danaila; Populated: YES; Revision: 2; Symbol: OSCILLATOR 4 Pins; Status: MCL Design; ComponentLink1URL: https://chn-vm-apps.microchip.com/mchprepo/parts/Datasheets/DSC60xxB-Ultra-Small-Ultra-Low-Power-MEMS-Oscillator-DS20006133A.pdf; ComponentLink1Description: SVN Datasheet; ComponentLink2URL: C:\ALTIUM_WORK\00001_MCHP-CDB\Datasheets\DSC60xxB-Ultra-Small-Ultra-Low-Power-MEMS-Oscillator-DS20006133A.pdf; ComponentLink2Description: Local Datasheet; ComponentLink3URL: C:\ALTIUM_WORK\00001_MCHP-CDB\Library\LibraryRefs\OSCILLATOR 4 Pins.SchLib; ComponentLink3Description: Open Symbol; ComponentLink4URL: C:\ALTIUM_WORK\00001_MCHP-CDB\Library\Footprints\DFN-4_VFLGA_1.6 X 1.2.PcbLib; ComponentLink4Description: Open Footprint; ComponentLink5Description: Open Footprint 2; ComponentLink6Description: Open Footprint 3; ComponentLink7Description: Open Footprint 4; Category: MCHP-Clock/Timing; Type: Oscillator; Supplier 1: Digi-Key; Supplier Part Number 1: DSC6003HI2B-024.0000-ND; Quantity Override: 1
footprint DSC6003HI2B0240000
pins: 1 EN (in), 2 GND (power), 3 OUT (out), 4 VDD (power)
2 alternate drawings of the same symbol

## MIC8649
designator U?, comment value SST26VF064BEUI-104I/MF  (hidden comment: SST26VF064B-104IMF)
SQI Serial Flash; Manufacturer 1: Microchip Technology; MCHP-ID: MIC8649; Description_: MCHP SERIAL FLASH SST26VF064BEUI-104I/MF WDFN-8; MAPS Description: 64Mb 2.3V to 3.6V SQI Flash Memory with EUI48 & EUI64 Mac Addresses; Dev Tools Status: Design; Owner: Dragos Danaila; MPC: S01027U3XEUI; PackingMedia: TUBE; TempRange: -40C to +85C; Stage: REL; LeadCount: 8; PackageWidth: 6x5x0.8mm; ForceMinOrderQtyMult: False; MinOrderQty: 0; LeadContent: Pb-FREE; Busmodes: SPI,SDI,SQI; MemorySize: 64Mb; OpVoltMin: 2,3; OpVoltMax: 3,6; MaxClockFreq: 104 MHz; PageSize_B: 256; WPScheme: Full Array; Endurance: 100,000; Populated: YES; Symbol: SST26VF064B-104IMF; Type: Serial Flash; Status: MCL Design; Revision: 1; Category: MCHP-Memory; ComponentLink1URL: http://www.microchip.com/wwwproducts/SST26VF064BEUI; ComponentLink1Description: SVN Datasheet; ComponentLink2Description: Local Datasheet; ComponentLink3URL: C:\ALTIUM_WORK\00001_MCHP-CDB\Library\LibraryRefs\SST26VF064B-104IMF.SchLib; ComponentLink3Description: Open Symbol; ComponentLink4URL: C:\ALTIUM_WORK\00001_MCHP-CDB\Library\Footprints\WSON-8_6x5_EP3.4X4.0.PcbLib; ComponentLink4Description: Open Footprint; ComponentLink5Description: Open Footprint 2; ComponentLink6Description: Open Footprint 3; ComponentLink7Description: Open Footprint 4; Manufacturer Part Number 1: SST26VF064BEUI-104I/MF; Supplier 1: Microchip Technology; Supplier Part Number 1: SST26VF064BEUI-104I/MF; PackageType: TDFN-S; IntroductionDate: 2019-04-11; Quantity Override: 1
footprint TDFN-S8_MF_MCH
pins: 1 ~{CE} (in) "GND", 2 SO/SIO1 "GND", 3 ~{WP}/SIO2 "GND", 4 VSS (power) "GND", 5 SI/SIO0 "GND", 6 SCK (in) "GND", 7 ~{HOLD}/SIO3 "GND", 8 VDD (power) "GND", 9 TPAD (power) "GND"
1 alternate drawing of the same symbol

## MIC8785
designator Y?, comment Supplier Part Number 1: DSC6102HI2B-025.000  (hidden comment: OSCILLATOR 4 Pins)
Manufacturer 1: Microchip Technology Inc; MCHP-ID: MIC8785; Description_: OSCILLATOR MEMS 25MHz DSC6102HI2B-025.000 SMD VFLGA-4; Dev Tools Status: Design; Value: DSC6102HI2B-025.000; Owner: Dragos Danaila; Populated: YES; Revision: A; Symbol: OSCILLATOR 4 Pins; Status: MCL Design; ComponentLink1Description: SVN Datasheet; ComponentLink2Description: Local Datasheet; ComponentLink3URL: C:\ALTIUM_WORK\00001_MCHP-CDB\Library\LibraryRefs\OSCILLATOR 4 Pins.SchLib; ComponentLink3Description: Open Symbol; ComponentLink4URL: C:\ALTIUM_WORK\00001_MCHP-CDB\Library\Footprints\DFN-4_VFLGA_1.6 X 1.2.PcbLib; ComponentLink4Description: Open Footprint; ComponentLink5Description: Open Footprint 2; ComponentLink6Description: Open Footprint 3; ComponentLink7Description: Open Footprint 4; Category: MCHP-Clock/Timing; Type: Oscillator; Manufacturer Part Number 1: DSC6102HI2B-025.000; Supplier 1: Microchip Technology Inc; Quantity Override: 1
footprint DSC6003HI2B0240000
pins: 1 EN (in), 2 GND (power), 3 OUT (out), 4 VDD (power)
2 alternate drawings of the same symbol

## MIC8843
designator U?, comment value ATECC608A-TNGTLSS  (hidden comment: ATECC608A-TNGTLSU UDFN-8)
Manufacturer 1: Microchip Technology Inc; Manufacturer Part Number 1: ATECC608A-TNGTLSU-C; MCHP-ID: MIC8843; Description_: MCHP INTERFACE CRYPTOAUTH I2C ATECC608A-TNGTLS UDFN8; Dev Tools Status: Design; Owner: Dragos Danaila; Populated: YES; Symbol: ATECC608A-TNGTLSU; Type: CryptoMemory; Status: MCL Design; Revision: 2; Category: MCHP-Memory; ComponentLink1Description: SVN Datasheet; ComponentLink2URL: C:\ALTIUM_WORK\00001_MCHP-CDB\Datasheets\ATECC608A-TNGTLS-CryptoAuthentication-Data-Sheet-DS40002112B.pdf; ComponentLink2Description: Local Datasheet; ComponentLink3URL: C:\ALTIUM_WORK\00001_MCHP-CDB\Library\LibraryRefs\ATECC608A-TNGTLSU.SchLib; ComponentLink3Description: Open Symbol; ComponentLink4URL: C:\ALTIUM_WORK\00001_MCHP-CDB\Library\Footprints\UDFN-8_2X3_EP1.5X1.3.PcbLib; ComponentLink4Description: Open Footprint; ComponentLink5Description: Open Footprint 2; ComponentLink6Description: Open Footprint 3; ComponentLink7Description: Open Footprint 4; Supplier 1: Digi-Key; Supplier Part Number 1: 150-ATECC608A-TNGTLSU-C-ND; Quantity Override: 1
footprint SOIC8_NARROW_SN_MCH
pins: 4 GND (power), 5 SDA (io), 6 SCL (in), 8 VCC (power), 9 PAD

## OSC1206
designator Y?, comment value 32.768 Hz  Load Capacitance: 6pF  (hidden comment: Crystal 2 Pins)
Crystal; Manufacturer 1: NDK America, Inc.; Manufacturer Part Number 1: NX2012SA-32.768KHZ-EXS00A-MU00626; MCHP-ID: OSC1206; Description_: CRYSTAL 32.768kHz 6pF SMD NX2012SA-32.768KHZ-EXS00A-MU00626; Dev Tools Status: Design; Owner: Dragos Danaila; Tolerance: 20 ppm; Populated: YES; Revision: A; Symbol: Crystal 2 Pins; Status: MCL Design; ComponentLink1URL: https://chn-vm-apps.microchip.com/mchprepo/parts/Datasheets/c_NX2012SA-STD-MUB-1_e.pdf; ComponentLink1Description: SVN Datasheet; ComponentLink2URL: C:\ALTIUM_WORK\00001_MCHP-CDB\Datasheets\c_NX2012SA-STD-MUB-1_e.pdf; ComponentLink2Description: Local Datasheet; ComponentLink3URL: C:\ALTIUM_WORK\00001_MCHP-CDB\Library\LibraryRefs\Crystal 2 Pins.SchLib; ComponentLink3Description: Open Symbol; ComponentLink4URL: C:\ALTIUM_WORK\00001_MCHP-CDB\Library\Footprints\CRYSTAL_NX2012SA.PcbLib; ComponentLink4Description: Open Footprint; ComponentLink5Description: Open Footprint 2; ComponentLink6Description: Open Footprint 3; ComponentLink7Description: Open Footprint 4; Operating Temperature: -40C to +85C; Package: 2mm x 1.2mm; Category: Crystal/Oscillator; Supplier 1: Digi-Key; Supplier Part Number 1: 644-1355-1-ND; Quantity Override: 1
footprint XTAL_NX2012SA_NDK
pins: 1 Osc1, 2 Osc2

## RES1473
designator R?, comment value 22R  (hidden comment: Resistor)
Manufacturer 1: Panasonic Electronic Components; Manufacturer Part Number 1: ERJ-1GEF22R0C; MCHP-ID: RES1473; Tolerance: 1%; Description_: RES TKF 22R 1% 1/20W SMD 0201; Dev Tools Status: Design; Voltage: 25V; Power: 1/20W; Owner: Mike Ragsdale; Populated: YES; Package: 0201; Revision: 1; Symbol: Resistor; Status: MCL Design; ComponentLink1Description: SVN Datasheet; ComponentLink2Description: Local Datasheet; ComponentLink3URL: C:\ALTIUM_WORK\00001_MCHP-CDB\Library\LibraryRefs\Resistor.SchLib; ComponentLink3Description: Open Symbol; ComponentLink4URL: C:\ALTIUM_WORK\00001_MCHP-CDB\Library\Footprints\RES_C_0201.PcbLib; ComponentLink4Description: Open Footprint; ComponentLink5Description: Open Footprint 2; ComponentLink6Description: Open Footprint 3; ComponentLink7Description: Open Footprint 4; Operating Temperature: -55C to +125C; Category: Resistor; Type: RES SMD; Composition: TKF; Supplier 1: Digi-Key; Supplier Part Number 1: P22.0ABCT-ND; Quantity Override: 1
footprint RES_C_0201
pins: 1, 2

## RES1582
designator R?, comment value 100k  Package: 0201  (hidden comment: Resistor)
Manufacturer 1: Panasonic Electronic Components; Manufacturer Part Number 1: ERJ-1GEF1003C; MCHP-ID: RES1582; Tolerance: 1%; Description_: RES TKF 100k 1% 1/20W SMD 0201; Dev Tools Status: Design; Voltage: 15V; Temperature Coeffcient: 200ppm/C; Power: 1/20W; Owner: Gabor Bihari; Populated: YES; Revision: A; Symbol: Resistor; Status: MCL Design; ComponentLink1URL: https://chn-vm-apps.microchip.com/mchprepo/parts/Datasheets/ERJ_G,R,E_Rev08.pdf; ComponentLink1Description: SVN Datasheet; ComponentLink2URL: C:\ALTIUM_WORK\00001_MCHP-CDB\Datasheets\ERJ_G,R,E_Rev08.pdf; ComponentLink2Description: Local Datasheet; ComponentLink3URL: C:\ALTIUM_WORK\00001_MCHP-CDB\Library\LibraryRefs\Resistor.SchLib; ComponentLink3Description: Open Symbol; ComponentLink4URL: C:\ALTIUM_WORK\00001_MCHP-CDB\Library\Footprints\RES_C_0201.PcbLib; ComponentLink4Description: Open Footprint; ComponentLink5Description: Open Footprint 2; ComponentLink6Description: Open Footprint 3; ComponentLink7Description: Open Footprint 4; Operating Temperature: -55C to +125C; Category: Resistor; Type: RES SMD; Composition: TKF; Supplier 1: Digi-Key; Supplier Part Number 1: P100KABCT-ND; Quantity Override: 1
footprint RES_C_0201
pins: 1, 2

## RES1588
designator R?, comment value 1k  Package: 0201  Tolerance: 1%  (hidden comment: Resistor)
Manufacturer 1: Panasonic Electronic Components; Manufacturer Part Number 1: ERJ-1GEF1001C; MCHP-ID: RES1588; Description_: RES TKF 1k 1% 1/20W SMD 0201; Dev Tools Status: Design; Voltage: 25V; Power: 1/20W; Owner: Gabor Bihari; Populated: YES; Revision: A; Symbol: Resistor; Status: MCL Design; ComponentLink1URL: https://chn-vm-apps.microchip.com/mchprepo/parts/Datasheets/ERJ_G,R,E_Rev08.pdf; ComponentLink1Description: SVN Datasheet; ComponentLink2URL: C:\ALTIUM_WORK\00001_MCHP-CDB\Datasheets\ERJ_G,R,E_Rev08.pdf; ComponentLink2Description: Local Datasheet; ComponentLink3URL: C:\ALTIUM_WORK\00001_MCHP-CDB\Library\LibraryRefs\Resistor.SchLib; ComponentLink3Description: Open Symbol; ComponentLink4URL: C:\ALTIUM_WORK\00001_MCHP-CDB\Library\Footprints\RES_C_0201.PcbLib; ComponentLink4Description: Open Footprint; ComponentLink5Description: Open Footprint 2; ComponentLink6Description: Open Footprint 3; ComponentLink7Description: Open Footprint 4; Operating Temperature: -55°C to 125°C; Category: Resistor; Type: RES SMD; Composition: TKF; Supplier 1: Digi-Key; Supplier Part Number 1: P1.00KABTR-ND; Quantity Override: 1
footprint RES_C_0201
pins: 1, 2

## RES2022
designator R?, comment value 1.5k  Package: 0402  Tolerance: 1%  (hidden comment: Resistor)
Manufacturer 1: Yageo; Manufacturer Part Number 1: RC0402FR-071K5L; MCHP-ID: RES2022; Description_: RES TKF 1.5K 1% 1/16W SMD 0402; Dev Tools Status: Design; Temperature Coeffcient: 100ppm/°C; Power: 1/16W; Owner: Ilie Galan; Populated: YES; Revision: A; Symbol: Resistor; Status: MCL Design; ComponentLink1URL: https://chn-vm-apps.microchip.com/mchprepo/parts/Datasheets/PYu-RC0402_51_RoHS_L_6_r-8721.pdf; ComponentLink1Description: SVN Datasheet; ComponentLink2URL: C:\ALTIUM_WORK\00001_MCHP-CDB\Datasheets\PYu-RC0402_51_RoHS_L_6_r-8721.pdf; ComponentLink2Description: Local Datasheet; ComponentLink3URL: C:\ALTIUM_WORK\00001_MCHP-CDB\Library\LibraryRefs\Resistor.SchLib; ComponentLink3Description: Open Symbol; ComponentLink4URL: C:\ALTIUM_WORK\00001_MCHP-CDB\Library\Footprints\RES_C_0402.PcbLib; ComponentLink4Description: Open Footprint; ComponentLink5Description: Open Footprint 2; ComponentLink6Description: Open Footprint 3; ComponentLink7Description: Open Footprint 4; Operating Temperature: -55C to +155C; Category: Resistor; Type: RES SMD; Composition: TKF; Supplier 1: Digi-Key; Supplier Part Number 1: 311-1.50KLRCT-ND; Quantity Override: 1
footprint RES_C_0402
pins: 1, 2

## RES2053
designator R?, comment value 5.62K  Package: 0201  Tolerance: 1%  (hidden comment: Resistor)
Manufacturer 1: Yageo; Manufacturer Part Number 1: RC0201FR-075K62L; MCHP-ID: RES2053; Description_: RES TKF 5.62K 1% 1/20W SMD 0201; Dev Tools Status: Design; Temperature Coeffcient: 200ppm/C; Power: 1/20W; Owner: Ilie Galan; Populated: YES; Revision: A; Symbol: Resistor; Status: MCL Design; ComponentLink1URL: https://chn-vm-apps.microchip.com/mchprepo/parts/Datasheets/ERJ-G,R,E_Series_Rev_Oct_2014.pdf; ComponentLink1Description: SVN Datasheet; ComponentLink2URL: C:\ALTIUM_WORK\00001_MCHP-CDB\Datasheets\ERJ-G,R,E_Series_Rev_Oct_2014.pdf; ComponentLink2Description: Local Datasheet; ComponentLink3URL: C:\ALTIUM_WORK\00001_MCHP-CDB\Library\LibraryRefs\Resistor.SchLib; ComponentLink3Description: Open Symbol; ComponentLink4URL: C:\ALTIUM_WORK\00001_MCHP-CDB\Library\Footprints\RES_C_0201.PcbLib; ComponentLink4Description: Open Footprint; ComponentLink5Description: Open Footprint 2; ComponentLink6Description: Open Footprint 3; ComponentLink7Description: Open Footprint 4; Operating Temperature: -55C to +125C; Category: Resistor; Type: RES SMD; Composition: TKF; Supplier 1: Digi-Key; Supplier Part Number 1: YAG2345CT-ND; Quantity Override: 1
footprint RES_C_0201
pins: 1, 2

## RES2175
designator R?, comment value 100R  Package: 0201  Tolerance: 1%  (hidden comment: Resistor)
Manufacturer 1: Yageo; Manufacturer Part Number 1: RC0201FR-07100RL; MCHP-ID: RES2175; Description_: RES TKF 100R 1% 1/20W SMD 0201; Dev Tools Status: Design; Voltage: 25V; Temperature Coeffcient: 200ppm/C; Current: 0.5A; Power: 1/20W; Owner: Dragos Danaila; Populated: YES; Revision: A; Symbol: Resistor; Status: MCL Design; ComponentLink1URL: https://chn-vm-apps.microchip.com/mchprepo/parts/Datasheets/PYu-RC_Group_51_RoHS_L_9.pdf; ComponentLink1Description: SVN Datasheet; ComponentLink2URL: C:\ALTIUM_WORK\00001_MCHP-CDB\Datasheets\PYu-RC_Group_51_RoHS_L_9.pdf; ComponentLink2Description: Local Datasheet; ComponentLink3URL: C:\ALTIUM_WORK\00001_MCHP-CDB\Library\LibraryRefs\Resistor.SchLib; ComponentLink3Description: Open Symbol; ComponentLink4URL: C:\ALTIUM_WORK\00001_MCHP-CDB\Library\Footprints\RES_C_0201.PcbLib; ComponentLink4Description: Open Footprint; ComponentLink5Description: Open Footprint 2; ComponentLink6Description: Open Footprint 3; ComponentLink7Description: Open Footprint 4; Operating Temperature: -55C to +125C; Category: Resistor; Type: RES SMD; Composition: TKF; Supplier 1: Digi-Key; Supplier Part Number 1: 311-100MCT-ND; Quantity Override: 1
footprint RES_C_0201
pins: 1, 2